# EAGLE library part BTS50055-1TMA (library mosfet-infineon)
BTS50055-1TMA Smart Highside High Current Power Switch, VBB 62V TO127P1385X450-8N-V
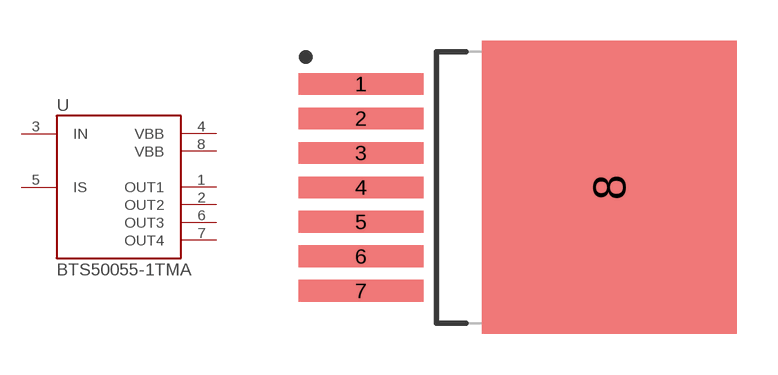
[diagram p33: symbol with the pads of TO127P1385X450-8N-V; footprint TO127P1385X450-8N-V]

Designator prefix U

## BTS50055-1TMA  [TO127P1385X450-8N-V]
1  OUT1  out
2  OUT2  out
3  IN  in
4  VBB  pwr
5  IS  out
6  OUT3  out
7  OUT4  out
8  VBB  pwr

## Footprint TO127P1385X450-8N-V (pad centres in mm)
Original name TO127P1385X450-8N-V Max Component Height - 4.5mm
smd 4.6 x 0.8: 1 -4.575,3.81; 2 -4.575,2.54; 3 -4.575,1.27; 4 -4.575,0; 5 -4.575,-1.27; 6 -4.575,-2.54; 7 -4.575,-3.81
smd 9.4 x 10.8: 8 4.575,0